# EAGLE library part MAX20303BEWN+ (library PCB_Components)
PMIC with Ultra Low IQ Voltage Regulators, Battery Charger and Fuel Gauge for Small Lithium Ion Systems, 56WLP Source: Datasheet <https://datasheets.maximintegrated.com/en/ds/MAX20303.pdf>
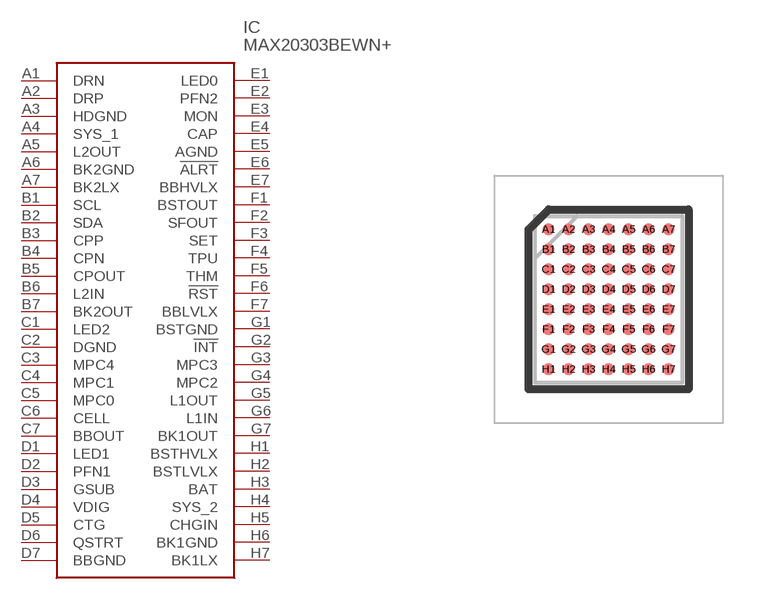
[diagram p5: symbol with the pads of BGA56C50P7X8_368X418X69; footprint BGA56C50P7X8_368X418X69]

Designator prefix IC

## MAX20303BEWN+ (DESCRIPTION: PMIC with Ultra Low IQ Voltage Regulators, Battery Charger and Fuel Gauge for Small Lithium Ion Systems, 56WLP; HEIGHT: 0.69mm; MANUFACTURER_NAME: Maxim Integrated; MANUFACTURER_PART_NUMBER: MAX20303BEWN+; MOUSER_PART_NUMBER: 700-MAX20303BEWN+; MOUSER_PRICE-STOCK: https://www.mouser.co.uk/ProductDetail/Maxim-Integrated/MAX20303BEWN%2b?qs=1mbolxNpo8eN7uF1MmO5jA%3D%3D)  [BGA56C50P7X8_368X418X69]
A1  DRN
A2  DRP
A3  HDGND
A4  SYS_1
A5  L2OUT
A6  BK2GND
A7  BK2LX
B1  SCL
B2  SDA
B3  CPP
B4  CPN
B5  CPOUT
B6  L2IN
B7  BK2OUT
C1  LED2
C2  DGND
C3  MPC4
C4  MPC1
C5  MPC0
C6  CELL
C7  BBOUT
D1  LED1
D2  PFN1
D3  GSUB
D4  VDIG
D5  CTG
D6  QSTRT
D7  BBGND
E1  LED0
E2  PFN2
E3  MON
E4  CAP
E5  AGND
E6  !ALRT
E7  BBHVLX
F1  BSTOUT
F2  SFOUT
F3  SET
F4  TPU
F5  THM
F6  !RST
F7  BBLVLX
G1  BSTGND
G2  !INT
G3  MPC3
G4  MPC2
G5  L1OUT
G6  L1IN
G7  BK1OUT
H1  BSTHVLX
H2  BSTLVLX
H3  BAT
H4  SYS_2
H5  CHGIN
H6  BK1GND
H7  BK1LX

## Footprint BGA56C50P7X8_368X418X69 (pad centres in mm)
W563A4+1
smd 0.298 x 0.298: A1 -1.5,1.75; A2 -1,1.75; A3 -0.5,1.75; A4 0,1.75; A5 0.5,1.75; A6 1,1.75; A7 1.5,1.75; B1 -1.5,1.25; B2 -1,1.25; B3 -0.5,1.25; B4 0,1.25; B5 0.5,1.25; B6 1,1.25; B7 1.5,1.25; C1 -1.5,0.75; C2 -1,0.75; C3 -0.5,0.75; C4 0,0.75; C5 0.5,0.75; C6 1,0.75; C7 1.5,0.75; D1 -1.5,0.25; D2 -1,0.25; D3 -0.5,0.25; D4 0,0.25; D5 0.5,0.25; D6 1,0.25; D7 1.5,0.25; E1 -1.5,-0.25; E2 -1,-0.25; E3 -0.5,-0.25; E4 0,-0.25; E5 0.5,-0.25; E6 1,-0.25; E7 1.5,-0.25; F1 -1.5,-0.75; F2 -1,-0.75; F3 -0.5,-0.75; F4 0,-0.75; F5 0.5,-0.75; F6 1,-0.75; F7 1.5,-0.75; G1 -1.5,-1.25; G2 -1,-1.25; G3 -0.5,-1.25; G4 0,-1.25; G5 0.5,-1.25; G6 1,-1.25; G7 1.5,-1.25; H1 -1.5,-1.75; H2 -1,-1.75; H3 -0.5,-1.75; H4 0,-1.75; H5 0.5,-1.75; H6 1,-1.75; H7 1.5,-1.75